# EAGLE library part MEGA-R3ALL (library Arduino-shield-scaffolds)
Arduino MEGA sized board
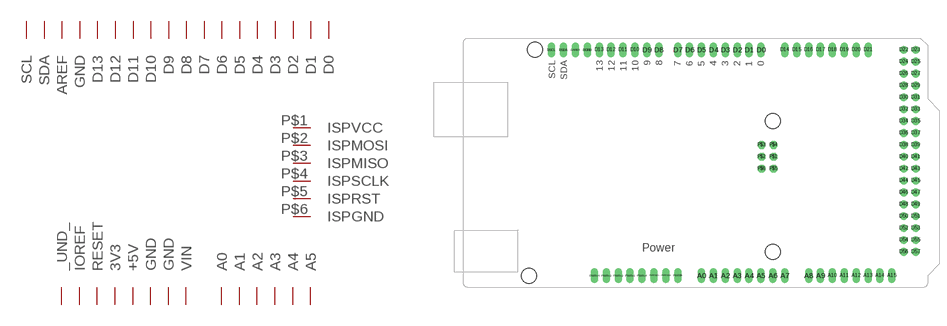
[diagram p8: symbol with the pads of ALL-MEGA; footprint ALL-MEGA]

Designator prefix -; gates G$1=ARDUINO_PWRBASE G$2=ARDUINO-A0-5 G$3=ARDUINO-AREF G$4=ARDUINO-D8-13 G$5=ARDUINO-DGND G$6=ARDUINO-I2C G$7=ARDUINO-ISP G$8=ARDUINO-R3PWR G$9=ARDUINODO-7 G$10=ARDUINO-EXTPWR

## MEGA-R3ALL  [ALL-MEGA]
A0  G$2:A0
A1  G$2:A1
A2  G$2:A2
A3  G$2:A3
A4  G$2:A4
A5  G$2:A5
D0  G$9:D0
D1  G$9:D1
D2  G$9:D2
D3  G$9:D3
D4  G$9:D4
D5  G$9:D5
D6  G$9:D6
D7  G$9:D7
D8  G$4:D8
D9  G$4:D9
D10  G$4:D10
D11  G$4:D11
D12  G$4:D12
D13  G$4:D13
DAREF  G$3:AREF  pas
DGND  G$5:GND  pwr
DSCL  G$6:SCL
DSDA  G$6:SDA
P$1  G$7:ISPVCC  pwr
P$2  G$7:ISPMOSI  out
P$3  G$7:ISPMISO  in
P$4  G$7:ISPSCLK  out
P$5  G$7:ISPRST  in
P$6  G$7:ISPGND  pwr
PWR+1  G$10:3V3  pwr
PWR+2  G$10:RESET  in
PWR+3  G$8:IOREF  out
PWR+4  G$8:_UND_  pas
PWR+5  G$1:+5V  pwr
PWRGND1  G$1:GND  pwr
PWRGND2  G$1:GND  pwr
PWRVIN  G$1:VIN  pwr

## Footprint ALL-MEGA (pad centres in mm)
Arduino MEGA and Due, Adafruit Grand Central M4
drill 1.1 long: A0 50.8,2.54; A1 53.34,2.54; A2 55.88,2.54; A3 58.42,2.54; A4 60.96,2.54; A5 63.5,2.54; A6 66.04,2.54; A7 68.58,2.54; A8 73.66,2.54; A9 76.2,2.54; A10 78.74,2.54; A11 81.28,2.54; A12 83.82,2.54; A13 86.36,2.54; A14 88.9,2.54; A15 91.44,2.54; D0 63.5,50.8; D1 60.96,50.8; D2 58.42,50.8; D3 55.88,50.8; D4 53.34,50.8; D5 50.8,50.8; D6 48.26,50.8; D7 45.72,50.8; D8 41.656,50.8; D9 39.116,50.8; D10 36.576,50.8; D11 34.036,50.8; D12 31.496,50.8; D13 28.956,50.8; D14 68.58,50.8; D15 71.12,50.8; D16 73.66,50.8; D17 76.2,50.8; D18 78.74,50.8; D19 81.28,50.8; D20 83.82,50.8; D21 86.36,50.8; DAREF 23.876,50.8; DGND 26.416,50.8; DSCL 18.796,50.8; DSDA 21.336,50.8; PWR+1 35.56,2.54; PWR+2 33.02,2.54; PWR+3 30.48,2.54; PWR+4 27.94,2.54; PWR+5 38.1,2.54; PWRGND1 40.64,2.54; PWRGND2 43.18,2.54; PWRVIN 45.72,2.54
drill 1.1: D22 93.98,50.8; D23 96.52,50.8; D24 93.98,48.26; D25 96.52,48.26; D26 93.98,45.72; D27 96.52,45.72; D28 93.98,43.18; D29 96.52,43.18; D30 93.98,40.64; D31 96.52,40.64; D32 93.98,38.1; D33 96.52,38.1; D34 93.98,35.56; D35 96.52,35.56; D36 93.98,33.02; D37 96.52,33.02; D38 93.98,30.48; D39 96.52,30.48; D40 93.98,27.94; D41 96.52,27.94; D42 93.98,25.4; D43 96.52,25.4; D44 93.98,22.86; D45 96.52,22.86; D46 93.98,20.32; D47 96.52,20.32; D48 93.98,17.78; D49 96.52,17.78; D50 93.98,15.24; D51 96.52,15.24; D52 93.98,12.7; D53 96.52,12.7; D54 93.98,10.16; D55 96.52,10.16; D56 93.98,7.62; D57 96.52,7.62
drill 1.1 octagon: P$1 66.167,27.94; P$2 63.627,27.94; P$3 63.627,30.48; P$4 66.167,30.48; P$5 66.167,25.4; P$6 63.627,25.4
hole 3.2 at 66.04,35.56
hole 3.2 at 66.04,7.62
hole 3.2 at 15.24,50.8
hole 3.2 at 13.97,2.54